# EAGLE library part KP249KH5 (library optron)
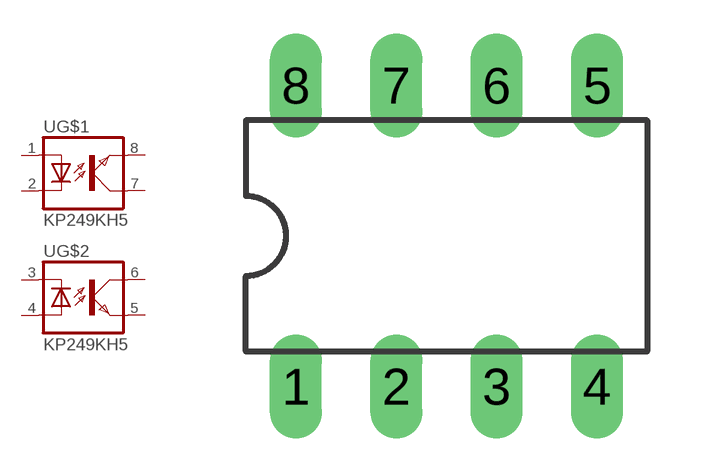
[diagram p0: symbol with the pads of DIL08; footprint DIL08]

Designator prefix -; gates G$1=OK G$2=OK1

## KP249KH5  [DIL08]
1  G$1:1  pas
2  G$1:2  pas
3  G$2:3  pas
4  G$2:4  pas
5  G$2:5  pas
6  G$2:6  pas
7  G$1:7  pas
8  G$1:8  pas

## Footprint DIL08 (pad centres in mm)
Dual In Line Package
drill 0.813 long: 1 -3.81,-3.81; 2 -1.27,-3.81; 3 1.27,-3.81; 4 3.81,-3.81; 5 3.81,3.81; 6 1.27,3.81; 7 -1.27,3.81; 8 -3.81,3.81